# Altium schematic symbol library powerSupply.SchLib: 9 symbols
Pins are listed as number, name and electrical type; pins without a type are passive.

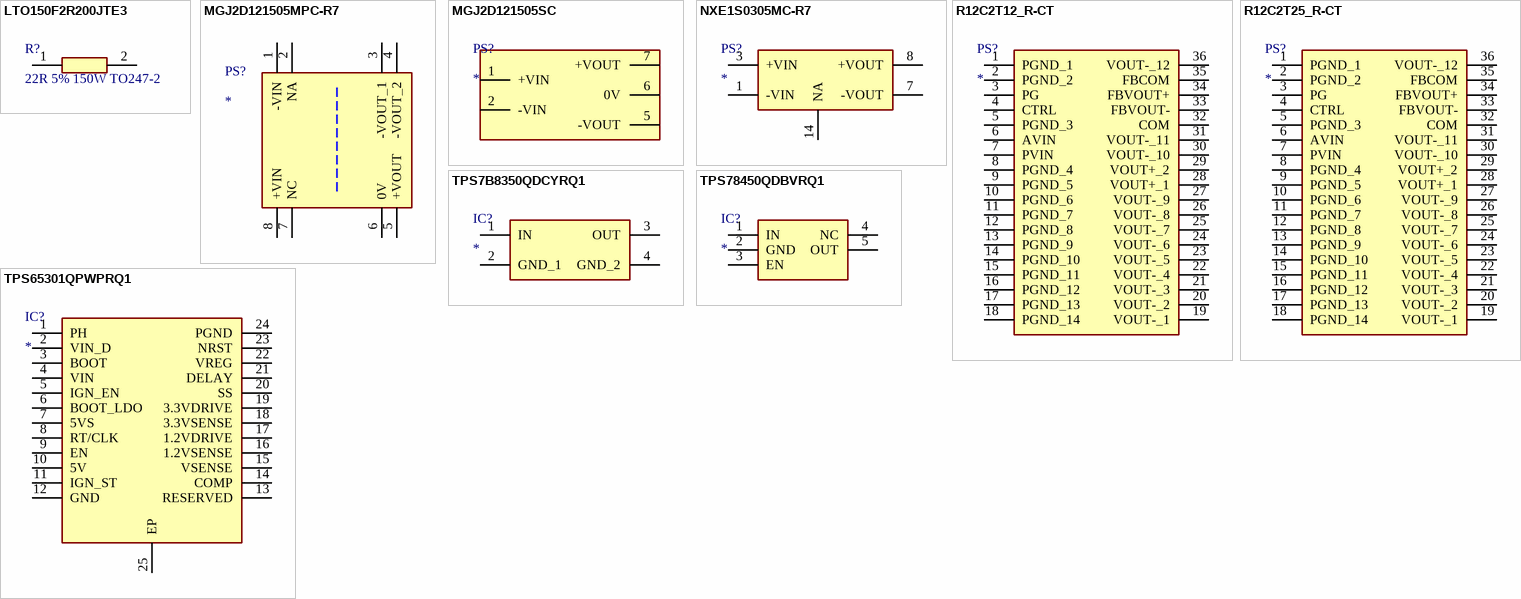
[diagram p0: symbols LTO150F2R200JTE3 to TPS78450QDBVRQ1]

## LTO150F2R200JTE3
designator R?, comment 22R 5% 150W TO247-2
RES 22 OHM 5% 150W TO247-2; Manufacturer_Name: Vishay; Manufacturer_Part_Number: LTO150F2R200JTE3; Datasheet Link: https://media.digikey.com/pdf/Data%20Sheets/Vishay%20Sfernice%20PDFs/LTO_150_Series.pdf; Height: 21mm; Mouser Part Number: 72-LTO150F2R200JTE3; Mouser Price/Stock: https://www.mouser.co.uk/ProductDetail/Vishay-Sfernice/LTO150F2R200JTE3?qs=55YtniHzbhBkF9uAdxv1ug%3D%3D; Arrow Part Number: LTO150F2R200JTE3; Arrow Price/Stock: https://www.arrow.com/en/products/lto150f2r200jte3/vishay?utm_currency=USD&region=nac
footprint LTO150F2R200JTE3
pins: 1, 2

## MGJ2D121505MPC-R7
designator PS?
12V to +15V/-5V 2W SMD Power Supply; Manufacturer_Name: Murata Electronics; Manufacturer_Part_Number: MGJ2D121505MPC-R7; Datasheet Link: https://www.mouser.jp/datasheet/2/281/1/Murata_KDC_MGJ2SM_B01-2400596.pdf; Height: 4.84mm; Mouser Part Number: 580-MGJ2D121505MPCR7; Mouser Price/Stock: https://www.mouser.co.uk/ProductDetail/Murata-Power-Solutions/MGJ2D121505MPC-R7?qs=QNEnbhJQKvY6HfjRbiDLPw%3D%3D; Arrow Part Number: MGJ2D121505MPC-R7; Arrow Price/Stock: https://www.arrow.com/en/products/mgj2d121505mpc-r7/murata-power-solutions?utm_currency=USD&region=nac
footprint MGJ2D121505MPCR7
pins: 1 -VIN, 2 NA, 3 -VOUT_1, 4 -VOUT_2, 5 +VOUT, 6 0V, 7 NC, 8 +VIN

## MGJ2D121505SC
designator PS?
12V to +15V/-5V 2W THT Power Supply; Manufacturer_Name: Murata Electronics; Manufacturer_Part_Number: MGJ2D121505SC; Datasheet Link: https://power.murata.com/pub/data/power/ncl/kdc_mgj2.pdf; Mouser Part Number: 580-MGJ2D121505SC; Mouser Price/Stock: https://www.mouser.co.uk/ProductDetail/Murata-Power-Solutions/MGJ2D121505SC?qs=xLDY6iXSiQalaVPFcxvgBQ%3D%3D; Arrow Part Number: MGJ2D121505SC; Arrow Price/Stock: https://www.arrow.com/en/products/mgj2d121505sc/murata-power-solutions?region=nac
footprint MGJ2D_7-PIN-SIP
pins: 1 +VIN, 2 -VIN, 5 -VOUT, 6 0V, 7 +VOUT

## NXE1S0305MC-R7
designator PS?
3.3V to 5V 1W Isolated; Manufacturer_Name: Murata Electronics; Manufacturer_Part_Number: NXE1S0305MC-R7; Datasheet Link: https://power.murata.com/data/power/ncl/kdc_nxe1.pdf; Height: 4mm; Mouser Part Number: 580-NXE1S0305MC-R7; Mouser Price/Stock: https://www.mouser.co.uk/ProductDetail/Murata-Power-Solutions/NXE1S0305MC-R7?qs=xc9CAX%252B0%252BIJlW5%252BmRDSQWQ%3D%3D; Arrow Part Number: NXE1S0305MC-R7; Arrow Price/Stock: https://www.arrow.com/en/products/nxe1s0305mc-r7/murata-power-solutions?utm_currency=USD&region=europe
footprint NXE1S0305MCR7
pins: 1 -VIN, 3 +VIN, 7 -VOUT, 8 +VOUT, 14 NA

## R12C2T12_R-CT
designator PS?
12V/10-18V ISOLATED 2.5W DC/DC-CONVERTER; Manufacturer_Name: RECOM Power; Manufacturer_Part_Number: R12C2T12/R-CT; Datasheet Link: https://recom-power.com/pdf/Econoline/R12C2T12_R.pdf; Height: 3.55mm
footprint R12C2T12RCT
pins: 1 PGND_1, 2 PGND_2, 3 PG, 4 CTRL, 5 PGND_3, 6 AVIN, 7 PVIN, 8 PGND_4, 9 PGND_5, 10 PGND_6, 11 PGND_7, 12 PGND_8, 13 PGND_9, 14 PGND_10, 15 PGND_11, 16 PGND_12, 17 PGND_13, 18 PGND_14, 19 VOUT-_1, 20 VOUT-_2, 21 VOUT-_3, 22 VOUT-_4, 23 VOUT-_5, 24 VOUT-_6, 25 VOUT-_7, 26 VOUT-_8, 27 VOUT-_9, 28 VOUT+_1, 29 VOUT+_2, 30 VOUT-_10, 31 VOUT-_11, 32 COM, 33 FBVOUT-, 34 FBVOUT+, 35 FBCOM, 36 VOUT-_12

## R12C2T25_R-CT
designator PS?
12V/15-25V 2.5W ISOLATED DC/DC-CONVERTER; Manufacturer_Name: RECOM Power; Manufacturer_Part_Number: R12C2T25/R-CT; Datasheet Link: https://recom-power.com/pdf/Econoline/R12C2T25_R.pdf; Height: 3.55mm
footprint R12C2T12RCT
pins: 1 PGND_1, 2 PGND_2, 3 PG, 4 CTRL, 5 PGND_3, 6 AVIN, 7 PVIN, 8 PGND_4, 9 PGND_5, 10 PGND_6, 11 PGND_7, 12 PGND_8, 13 PGND_9, 14 PGND_10, 15 PGND_11, 16 PGND_12, 17 PGND_13, 18 PGND_14, 19 VOUT-_1, 20 VOUT-_2, 21 VOUT-_3, 22 VOUT-_4, 23 VOUT-_5, 24 VOUT-_6, 25 VOUT-_7, 26 VOUT-_8, 27 VOUT-_9, 28 VOUT+_1, 29 VOUT+_2, 30 VOUT-_10, 31 VOUT-_11, 32 COM, 33 FBVOUT-, 34 FBVOUT+, 35 FBCOM, 36 VOUT-_12

## TPS7B8350QDCYRQ1
designator IC?
REG LINEAR 5V 150MA SOT-223-4; Manufacturer_Name: Texas Instruments; Manufacturer_Part_Number: TPS7B8350QDCYRQ1; Datasheet Link: https://www.ti.com/lit/ds/symlink/tps7b83-q1.pdf?ts=1611892622719&ref_url=https%253A%252F%252Fwww.ti.com%252Fstore%252Fti%252Fen%252Fp%252Fproduct%252F%253Fp%253DTPS7B8350QDCYRQ1; Height: 1.8mm; Mouser Part Number: 595-TPS7B8350QDCYRQ1; Mouser Price/Stock: https://www.mouser.co.uk/ProductDetail/Texas-Instruments/TPS7B8350QDCYRQ1?qs=81r%252BiQLm7BRkgKSQKWHoCg%3D%3D; Arrow Part Number: TPS7B8350QDCYRQ1; Arrow Price/Stock: https://www.arrow.com/en/products/tps7b8350qdcyrq1/texas-instruments?utm_currency=USD&region=nac
footprint SOT230P700X180-4N
pins: 1 IN, 2 GND_1, 3 OUT, 4 GND_2

## TPS65301QPWPRQ1
designator IC?
5.6V - 40V INPUT 5.45V/3.3V/1.2V BUCK/LDO OUT; Manufacturer_Name: Texas Instruments; Manufacturer_Part_Number: TPS65301QPWPRQ1; Datasheet Link: http://www.ti.com/lit/gpn/tps65301-q1; Height: 1.2mm; Mouser Part Number: 595-TPS65301QPWPRQ1; Mouser Price/Stock: https://www.mouser.co.uk/ProductDetail/Texas-Instruments/TPS65301QPWPRQ1?qs=JRStGrVgRuSczJYZofBTDA%3D%3D; Arrow Part Number: TPS65301QPWPRQ1; Arrow Price/Stock: https://www.arrow.com/en/products/tps65301qpwprq1/texas-instruments?utm_currency=USD&region=nac
footprint SOP65P640X120-25N
pins: 1 PH, 2 VIN_D, 3 BOOT, 4 VIN, 5 IGN_EN, 6 BOOT_LDO, 7 5VS, 8 RT/CLK, 9 EN, 10 5V, 11 IGN_ST, 12 GND, 13 RESERVED, 14 COMP, 15 VSENSE, 16 1.2VSENSE, 17 1.2VDRIVE, 18 3.3VSENSE, 19 3.3VDRIVE, 20 SS, 21 DELAY, 22 VREG, 23 NRST, 24 PGND, 25 EP

## TPS78450QDBVRQ1
designator IC?
REG LINEAR 5V 300MA SOT23-5; Manufacturer_Name: Texas Instruments; Manufacturer_Part_Number: TPS78450QDBVRQ1; Datasheet Link: https://www.ti.com/lit/ds/symlink/tps784-q1.pdf?ts=1621597556803&ref_url=https%253A%252F%252Fwww.ti.com%252Fstore%252Fti%252Fen%252Fp%252Fproduct%252F%253Fp%253DTPS78401QDBVRQ1; Height: 1.45mm; Mouser Part Number: 595-TPS78450QDBVRQ1; Mouser Price/Stock: https://www.mouser.co.uk/ProductDetail/Texas-Instruments/TPS78450QDBVRQ1?qs=OlC7AqGiEDlNiKKFTXJdtA%3D%3D; Arrow Part Number: TPS78450QDBVRQ1; Arrow Price/Stock: https://www.arrow.com/en/products/tps78450qdbvrq1/texas-instruments?utm_currency=USD&region=nac
footprint SOT95P280X145-5N
pins: 1 IN, 2 GND, 3 EN, 4 NC, 5 OUT